# Altium schematic symbol library Schlib_Irzirk.SchLib: 3 symbols
Pins are listed as number, name and electrical type; pins without a type are passive.

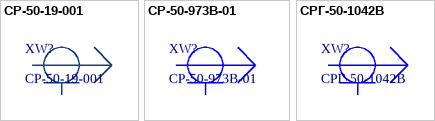
[diagram p0: symbols СР-50-19-001 to СРГ-50-1042В]

## СР-50-19-001
designator XW?
RF Connector; Part Number: СР-50-19-001; ТУ: -
footprint SR-50-19-001
pins: 1, 2

## СР-50-973В-01
designator XW?
RF Connector; ТУ: КАПД.434511.019 ТУ; Part Number: СР-50-973В-01
footprint SR-50-973V-01
pins: 1, 2

## СРГ-50-1042В
designator XW?
RF Connector; Part Number: СРГ-50-1042В
footprint SRG-50-1042V
pins: 1, 2